# Altium schematic symbol library Schlib1.SchLib: 26 symbols
Pins are listed as number, name and electrical type; pins without a type are passive.

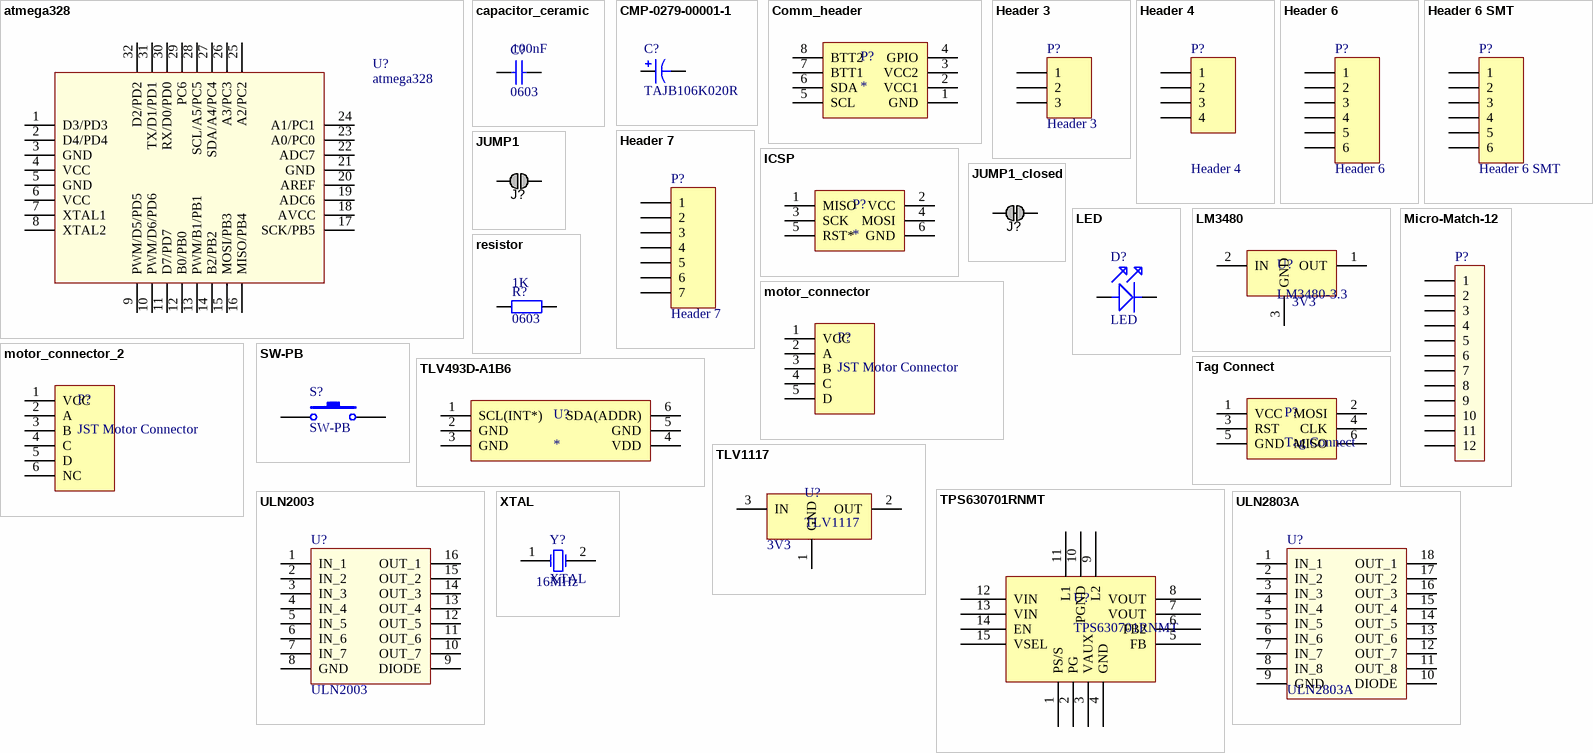
[diagram p0: symbols atmega328 to XTAL]

## atmega328
designator U?
32 TQFP atmega328
footprint ATMEGA328_TQFP32 (TQFP, 32-Leads, Body 7,00x7,00mm, Pitch 0,80mm, IPC Medium Density)
pins: 1 D3/PD3, 2 D4/PD4, 3 GND, 4 VCC, 5 GND, 6 VCC, 7 XTAL1, 8 XTAL2, 9 PWM/D5/PD5, 10 PWM/D6/PD6, 11 D7/PD7, 12 B0/PB0, 13 PWM/B1/PB1, 14 B2/PB2, 15 MOSI/PB3, 16 MISO/PB4, 17 SCK/PB5, 18 AVCC, 19 ADC6, 20 AREF, 21 GND, 22 ADC7, 23 A0/PC0, 24 A1/PC1, 25 A2/PC2, 26 A3/PC3, 27 SDA/A4/PC4, 28 SCL/A5/PC5, 29 PC6, 30 RX/D0/PD0, 31 TX/D1/PD1, 32 D2/PD2

## capacitor_ceramic
designator C?, comment 0603  value 100nF
Ceramic Capacitor
footprint 0603_HandSoldering (Chip Resistor, 2-Leads, Body 1.6x0.8mm, IPC Medium Density)
footprint C0805 (Chip Capacitor, Body 2.0x1.3mm, IPC High Density)
pins: 1, 2

## CMP-0279-00001-1
designator C?, comment TAJB106K020R
Capacitor, Tantalum, 10uF 10% 20V MCCT-B (3528); Manufacturer: AVX; Polarity: Polarized; PartNumber: TAJB106K020R; PackageDescription: 2-Pin SMT Capacitor, 3.5 x 2.8 mm Body; ComponentLink1URL: http://www.avx.com/; PackageReference: CAPC3528; ComponentLink2Description: Datasheet; Capacitance: 10uF; Technology: Tantalum; ComponentLink2URL: http://www.avx.com/docs/Catalogs/taj.pdf; Tolerance: 10%; ComponentLink1Description: Manufacturer URL; Rated Voltage: 20V; DatasheetVersion: Jun-13; Mounting Technology: Surface Mount
footprint AVX-CAPC3528_V (SMT Capacitor, 2 Leads, Body 3.5x2.8mm)
pins: 1, 2

## Comm_header
designator P?
2X4 pin 2.45 mm header
footprint VQFN TPS
pins: 1 GND, 2 VCC1, 3 VCC2, 4 GPIO, 5 SCL, 6 SDA, 7 BTT1, 8 BTT2

## Header 3
designator P?
Header, 3-Pin
footprint SMD_HEADER_3
pins: 1, 2, 3

## Header 4
designator P?
Header, 4-Pin
footprint HDR1X4_SMD (Connector; Header; 4 Position)
pins: 1, 2, 3, 4

## Header 6
designator P?
Header, 6-Pin
footprint HDR1X6 (Connector; Header; 6 Position)
pins: 1, 2, 3, 4, 5, 6

## Header 6 SMT
designator P?
Header, 6-Pin SMT
footprint HDR1X6_SMD (Connector; Header; 6 Position)
pins: 1, 2, 3, 4, 5, 6

## Header 7
designator P?
Header, 7-Pin
footprint HDR1X7 (Connector; Header; 7 Position)
pins: 1, 2, 3, 4, 5, 6, 7

## ICSP
designator P?
ICSP programming connector
footprint HDR2X3 SMT (Connector; Header; 3x2 Position; SMT)
pins: 1 MISO, 2 VCC, 3 SCK, 4 MOSI, 5 RST*, 6 GND

## JUMP1
designator J?, comment Jumper  (value not drawn)  (no BOM)
SMD jumper
footprint 0603 (Chip Resistor, 2-Leads, Body 1.6x0.8mm, IPC Medium Density)
pins: 1, 2

## JUMP1_closed
designator J?, comment Jumper Closed  (value not drawn)  (no BOM)
SMD jumper closed
footprint 0603_closed (Chip Resistor, 2-Leads, Body 1.6x0.8mm, IPC Medium Density)
pins: 1, 2

## LED
designator D?
LED diode
footprint 0603_LED (SMD LED, Body 1.6x0.8mm)
pins: 1, 2

## LM3480
designator U?, comment LM3480-3.3  value 3V3
LM3480-3.3 3.3V LDO regulator
footprint LM3480_SOT23-3 (SOT23, 3-Leads, Body 2,92x2,37mm, Pitch 0,95mm, IPC Medium Density)
pins: 1 OUT, 2 IN, 3 GND

## Micro-Match-12
designator P?
Micro-Match female PCB connector 12 Positions SMT
footprint Micro-Match-12 (Micro-Match Female-On-Board  12 Positions SMD)
pins: 1, 2, 3, 4, 5, 6, 7, 8, 9, 10, 11, 12

## motor_connector
designator P?, comment JST Motor Connector
JST unipolar motor connector
footprint JST B5B-XH-A
pins: 1 VCC, 2 A, 3 B, 4 C, 5 D

## motor_connector_2
designator P?, comment JST Motor Connector
JST unipolar motor connector
footprint JST S6B-XH-SM4-TB (JST S6B-XH-SM4-TB SMT motor connector)
pins: 1 VCC, 2 A, 3 B, 4 C, 5 D, 6 NC

## resistor
designator R?, comment 0603  value 1K
resistor
footprint 0603_HandSoldering (Chip Resistor, 2-Leads, Body 1.6x0.8mm, IPC Medium Density)
pins: 1, 2

## SW-PB
designator S?
Limit Switch
footprint KSS241G_switch (KSS241G SMT Side Actuated Switch)
pins: 1, 2

## Tag Connect
designator P?
TC2030-CTX-NL
footprint Tag Connect (TC2030-CTX-NL)
pins: 1 VCC, 2 MOSI, 3 RST, 4 CLK, 5 GND, 6 MISO

## TLV493D-A1B6
designator U?
3D Magnetic Sensor
footprint TLV493D_TSOP6 (TSOP, 6-Leads, Body 2,90x1,60mm, Pitch 0,95mm, IPC Medium Density)
pins: 1 SCL(INT*), 2 GND, 3 GND, 4 VDD, 5 GND, 6 SDA(ADDR)

## TLV1117
designator U?  value 3V3
LDO
footprint TLV1117_SOT223 (SOT223, 4-Leads, Body 6,7x7,3mm (max), Pitch 2,30mm, IPC Medium Density)
pins: 1 GND, 2 OUT, 3 IN

## TPS630701RNMT
designator U?
TEXAS INSTRUMENTS - TPS630701RNMT - DC/DC CONV, BUCK-BOOST, 2.4MHZ, VQFN-15; Input Voltage Min: 2; Input Voltage Max: 16; DC / DC Converter IC Case: VQFN; No. of Pins: 15; Output Voltage Nom.: 5; Switching Frequency: 2.4; SVHC: No SVHC (17-Dec-2015; Supplier 1: Farnell; Manufacturer: TEXAS INSTRUMENTS; Manufacturer Part Number: TPS630701RNMT; RoHS: YES; Stock 1: 456; Pricing 1: 1=2.23, 10=1.87, 100=1.7, 250=1.56, 500=1.47, 1000=1.21 (GBP); Topology: Buck-Boost; Output Current: 2; Operating Temperature Max: 125; Packaging: Cut Tape; Product Range: -; Automotive Qualification Standard: -; MSL: MSL 1 - Unlimited; ComponentLink1URL: http://www.ti.com/general/docs/lit/getliterature.tsp?genericPartNumber=TPS63070&fileType=pdf; ComponentLink1Description: http://www.ti.com/general/docs/lit/getliterature.tsp?genericPartNumber=TPS63070&fileType=pdf; Supplier Part Number 1: 2643432
footprint VQFN TPS
pins: 1 PS/S (oc), 2 PG (oc), 3 VAUX (oc), 4 GND (oc), 5 FB (oc), 6 FB2 (oc), 7 VOUT (oc), 8 VOUT (oc), 9 L2 (oc), 10 PGND (oc), 11 L1 (oc), 12 VIN (oc), 13 VIN (oc), 14 EN (oc), 15 VSEL (oc)

## ULN2003
designator U?
Darlington array, 7 channels
footprint ULN2003_TSSOP16 (TSSOP, 16-Leads, Body 5,00x4,40mm, Pitch 0,65mm, IPC Medium Density)
pins: 1 IN_1, 2 IN_2, 3 IN_3, 4 IN_4, 5 IN_5, 6 IN_6, 7 IN_7, 8 GND, 9 DIODE, 10 OUT_7, 11 OUT_6, 12 OUT_5, 13 OUT_4, 14 OUT_3, 15 OUT_2, 16 OUT_1

## ULN2803A
designator U?
Darlington array, 8 channels
footprint ULN2803A_SOIC18 (SOIC, 18-Leads, Body 11,55x7,50mm, Pitch 1,27mm, IPC Medium Density)
pins: 1 IN_1, 2 IN_2, 3 IN_3, 4 IN_4, 5 IN_5, 6 IN_6, 7 IN_7, 8 IN_8, 9 GND, 10 DIODE, 11 OUT_8, 12 OUT_7, 13 OUT_6, 14 OUT_5, 15 OUT_4, 16 OUT_3, 17 OUT_2, 18 OUT_1

## XTAL
designator Y?  value 16MHz
Crystal Oscillator
footprint XTAL (11.4 X 4.7 mm SMD crystal)
footprint XTAL_small (3.2 X 2.5 mm SMD crystal)
pins: 1 OSC1, 2 OSC2